# EAGLE library part NUCLEO-F303K8 (library Eagle_Lib_IUT)
STM32 Nucleo-32 development board with STM32F303K8T6 MCU, supports Arduino connectivity
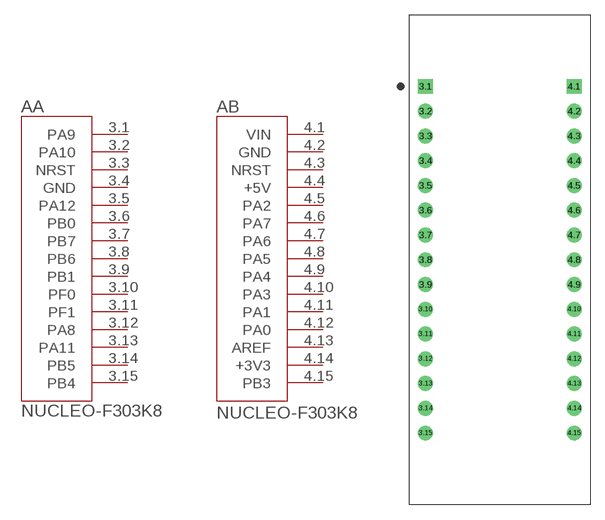
[diagram p9: symbol with the pads of MODULE_NUCLEO-F303K8; footprint MODULE_NUCLEO-F303K8]

Designator prefix A; gates A=NUCLEO-F303K8_SECTION1 B=NUCLEO-F303K8_SECTION2

## NUCLEO-F303K8 (AVAILABILITY: Good; DESCRIPTION: STM32 Nucleo-32 development board with STM32F303K8T6 MCU, supports Arduino connectivity; MF: STMicroelectronics; MP: NUCLEO-F303K8; PACKAGE: None; PRICE: 12.03 USD)  [MODULE_NUCLEO-F303K8]
3.1  A:PA9
3.2  A:PA10
3.3  A:NRST
3.4  A:GND
3.5  A:PA12
3.6  A:PB0
3.7  A:PB7
3.8  A:PB6
3.9  A:PB1
3.10  A:PF0
3.11  A:PF1
3.12  A:PA8
3.13  A:PA11
3.14  A:PB5
3.15  A:PB4
4.1  B:VIN
4.2  B:GND
4.3  B:NRST
4.4  B:+5V
4.5  B:PA2
4.6  B:PA7
4.7  B:PA6
4.8  B:PA5
4.9  B:PA4
4.10  B:PA3
4.11  B:PA1
4.12  B:PA0
4.13  B:AREF
4.14  B:+3V3
4.15  B:PB3

## Footprint MODULE_NUCLEO-F303K8 (pad centres in mm)
drill 1.02 square: 3.1 -7.62,17.78; 4.1 7.62,17.78
drill 1.02: 3.2 -7.62,15.24; 3.3 -7.62,12.7; 3.4 -7.62,10.16; 3.5 -7.62,7.62; 3.6 -7.62,5.08; 3.7 -7.62,2.54; 3.8 -7.62,0; 3.9 -7.62,-2.54; 3.10 -7.62,-5.08; 3.11 -7.62,-7.62; 3.12 -7.62,-10.16; 3.13 -7.62,-12.7; 3.14 -7.62,-15.24; 3.15 -7.62,-17.78; 4.2 7.62,15.24; 4.3 7.62,12.7; 4.4 7.62,10.16; 4.5 7.62,7.62; 4.6 7.62,5.08; 4.7 7.62,2.54; 4.8 7.62,0; 4.9 7.62,-2.54; 4.10 7.62,-5.08; 4.11 7.62,-7.62; 4.12 7.62,-10.16; 4.13 7.62,-12.7; 4.14 7.62,-15.24; 4.15 7.62,-17.78